# Altium footprint library Daxxn_Enclosures.PcbLib: 12 footprints
Each footprint in its own frame and in the unit in brackets; x right, y up, seen from the top. Pads: shape width x height; smd on the part's side, far side on the other; paste and mask are expansions set on the pad; w line width, h text height; cw(c..) or ccw(c..) is an arc to the next point about the centre after c.
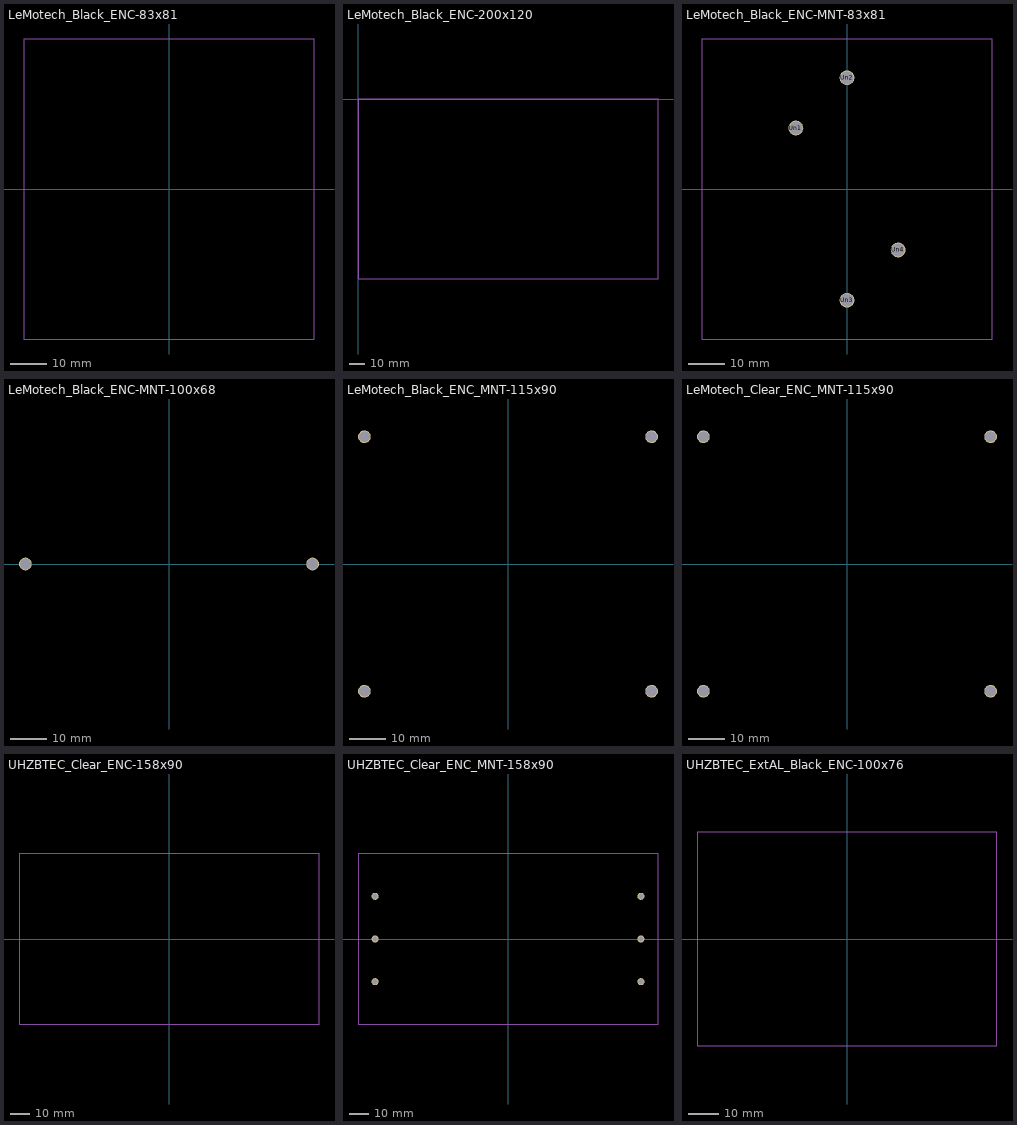
[diagram p0: the footprints below, top view; thin cyan lines are the x and y axes]

## LeMotech_Black_ENC-83x81 [mm]
F.Fab:
  lines w0.254: -40.145,-41.48 -40.145,41.48 40.145,41.48 40.145,-41.48 -40.145,-41.48
Cmts.User:
  text "'.Designator'" at -40.15,46.16 h1

## LeMotech_Black_ENC-100x68 [mm]
Cmts.User:
  text "'.Designator'" at -50.15,38.16 h1

## LeMotech_Black_ENC-115x90 [mm]
Cmts.User:
  text "'.Designator'" at -57.15,49.16 h1

## LeMotech_Black_ENC-200x120 [mm]
F.Fab:
  lines w0.254: 0,-120 0,0 200,0 200,-120 0,-120
Cmts.User:
  text "'.Designator'" at -0.15,4.16 h1

## LeMotech_Black_ENC-MNT-83x81 [mm]
pads (4):
  round 4.09 hole 3.59: Un1(-14.14,16.85) Un2(0,30.75) Un3(0,-30.75) Un4(14.14,-16.85)
F.Fab:
  lines w0.254: -40.145,-41.48 -40.145,41.48 40.145,41.48 40.145,-41.48 -40.145,-41.48
Cmts.User:
  text "'.Designator'" at -40.15,46.16 h1

## LeMotech_Black_ENC-MNT-100x68 [mm]
pads (2):
  round 3.5 hole 3: Un1(-39.497,0) Un2(39.497,0)
Cmts.User:
  text "'.Designator'" at -50.15,38.16 h1

## LeMotech_Black_ENC_MNT-115x90 [mm]
pads (4):
  round 3.5 hole 3: Un1(-39.5,35) Un2(-39.5,-35) Un3(39.5,35) Un4(39.5,-35)
Cmts.User:
  text "'.Designator'" at -57.15,49.16 h1

## LeMotech_Clear_ENC-115x90 [mm]
Cmts.User:
  text "'.Designator'" at -57.15,49.16 h1

## LeMotech_Clear_ENC_MNT-115x90 [mm]
pads (4):
  round 3.5 hole 3: Un1(-39.5,35) Un2(-39.5,-35) Un3(39.5,35) Un4(39.5,-35)
Cmts.User:
  text "'.Designator'" at -57.65,49.66 h1

## UHZBTEC_Clear_ENC-158x90 [mm]
F.Fab:
  lines w0.254: -79,-45 -79,45 79,45 79,-45 -79,-45
Cmts.User:
  text "'.Designator'" at -79.15,50.16 h1

## UHZBTEC_Clear_ENC_MNT-158x90 [mm]
pads (6):
  round 3.7 hole 2.7: Un1(-70,22.5) Un2(-70,0) Un3(-70,-22.5) Un4(70,22.5) Un5(70,0) Un6(70,-22.5)
F.Fab:
  lines w0.254: -79,-45 -79,45 79,45 79,-45 -79,-45
Cmts.User:
  text "'.Designator'" at -79.15,50.16 h1

## UHZBTEC_ExtAL_Black_ENC-100x76 [mm]
F.Fab:
  lines w0.254: -50,-35.6 -50,35.6 50,35.6 50,-35.6 -50,-35.6
Cmts.User:
  text "'.Designator'" at -50.15,39.76 h1